# EAGLE library part XR-2209 (library 1A-meinLib)
Voltage-Controlled-Oscillator, VCO, Frequency sweep = 1..1000, +-4V..+-13V, 0.01Hz..1MHz, Squarewave, Trianglewave
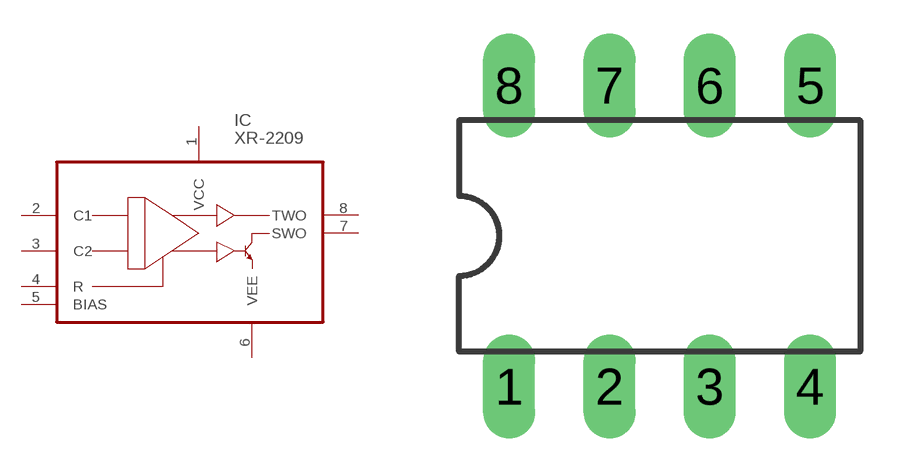
[diagram p168: symbol with the pads of DIL08; footprint DIL08]

Designator prefix IC

## XR-2209  [DIL08]
1  VCC  pas
2  C1  in
3  C2  in
4  R  in
5  BIAS  in
6  VEE  pas
7  SWO  out
8  TWO  out

## Footprint DIL08 (pad centres in mm)
Dual In Line Package
drill 0.813 long: 1 -3.81,-3.81; 2 -1.27,-3.81; 3 1.27,-3.81; 4 3.81,-3.81; 5 3.81,3.81; 6 1.27,3.81; 7 -1.27,3.81; 8 -3.81,3.81